# Altium schematic symbol library 1N4148.SchLib: 13 symbols
Pins are listed as number, name and electrical type; pins without a type are passive.

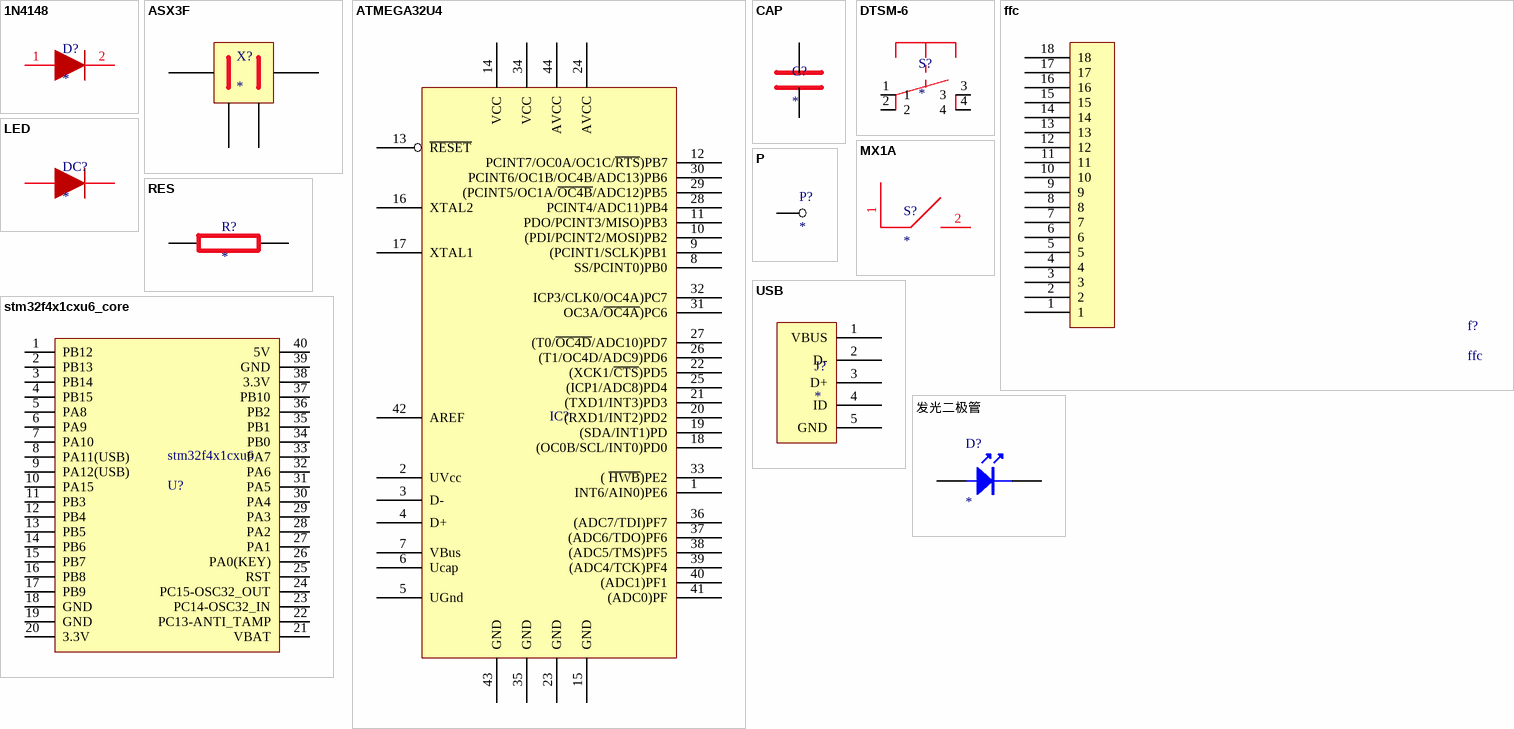
[diagram p0: symbols 1N4148 to 发光二极管]

## 1N4148
designator D?
二极管
footprint SOD323
pins: 1, 2

## ASX3F
designator X?
pins: 1 30, 2 31, 3 32, 4 33

## ATMEGA32U4
designator IC?
IC
pins: 1 INT6/AIN0)PE6, 2 UVcc, 3 D-, 4 D+, 5 UGnd, 6 Ucap, 7 VBus, 8 SS/PCINT0)PB0, 9 (PCINT1/SCLK)PB1, 10 (PDI/PCINT2/MOSI)PB2, 11 PDO/PCINT3/MISO)PB3, 12 PCINT7/OC0A/OC1C/~{RTS})PB7, 13 ~{RESET}, 14 VCC, 15 GND, 16 XTAL2, 17 XTAL1, 18 (OC0B/SCL/INT0)PD0, 19 (SDA/INT1)PD, 20 (RXD1/INT2)PD2, 21 (TXD1/INT3)PD3, 22 (XCK1/~{CTS})PD5, 23 GND, 24 AVCC, 25 (ICP1/ADC8)PD4, 26 (T1/OC4D/ADC9)PD6, 27 (T0/~{OC4D}/ADC10)PD7, 28 PCINT4/ADC11)PB4, 29 (PCINT5/OC1A/~{OC4B}/ADC12)PB5, 30 PCINT6/OC1B/OC4B/ADC13)PB6, 31 OC3A/~{OC4A})PC6, 32 ICP3/CLK0/OC4A)PC7, 33 ( ~{HWB})PE2, 34 VCC, 35 GND, 36 (ADC7/TDI)PF7, 37 (ADC6/TDO)PF6, 38 (ADC5/TMS)PF5, 39 (ADC4/TCK)PF4, 40 (ADC1)PF1, 41 (ADC0)PF, 42 AREF, 43 GND, 44 AVCC

## CAP
designator C?
电容
pins: 1, 2

## DTSM-6
designator S?
开关
pins: 1, 2, 3, 4

## ffc
designator f?
footprint FFC
pins: 1, 2, 3, 4, 5, 6, 7, 8, 9, 10, 11, 12, 13, 14, 15, 16, 17, 18

## LED
designator DC?
发光二极管
pins: 1, 2

## MX1A
designator S?
按键
footprint KEY
pins: 1, 2

## P
designator P?
pins: 42

## RES
designator R?
电阻
pins: 1, 2

## stm32f4x1cxu6_core
designator stm32f4x1cxu6, comment U?
footprint stm32f4x1cxu6_core
pins: 1 PB12, 2 PB13, 3 PB14, 4 PB15, 5 PA8, 6 PA9, 7 PA10, 8 PA11(USB), 9 PA12(USB), 10 PA15, 11 PB3, 12 PB4, 13 PB5, 14 PB6, 15 PB7, 16 PB8, 17 PB9, 18 GND, 19 GND, 20 3.3V, 21 VBAT, 22 PC13-ANTI_TAMP, 23 PC14-OSC32_IN, 24 PC15-OSC32_OUT, 25 RST, 26 PA0(KEY), 27 PA1, 28 PA2, 29 PA3, 30 PA4, 31 PA5, 32 PA6, 33 PA7, 34 PB0, 35 PB1, 36 PB2, 37 PB10, 38 3.3V, 39 GND, 40 5V

## USB
designator J?
USB
pins: 1 VBUS, 2 D-, 3 D+, 4 ID, 5 GND

## 发光二极管
designator D?
footprint DIODE0.4A
pins: A 1, K 2